# Altium footprint library PCB - DIODES - LUMEX LED 0404_1010 0.3MM.PcbLib: 1 footprints
Each footprint in its own frame and in the unit in brackets; x right, y up, seen from the top. Pads: shape width x height; smd on the part's side, far side on the other; paste and mask are expansions set on the pad; w line width, h text height; cw(c..) or ccw(c..) is an arc to the next point about the centre after c.
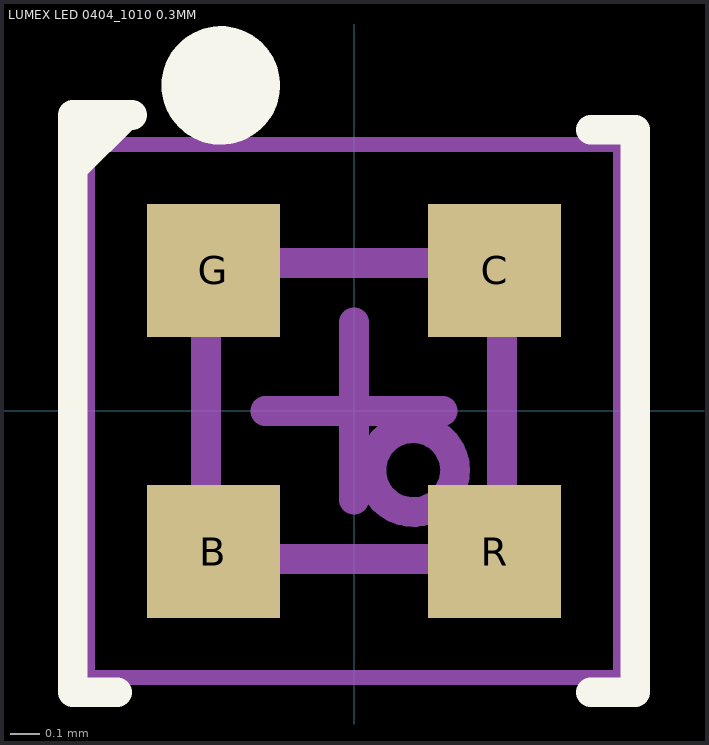
[diagram p0: the footprint, top view; thin cyan lines are the x and y axes]

## LUMEX LED 0404_1010 0.3MM [mm] "SMD RGB LED Indication, 4 Pads, Body 1.00x1.00mm"
height 0.3
pads (4):
  rect 0.45x0.45 smd: B(-0.475,-0.475) C(0.475,0.475) G(-0.475,0.475) R(0.475,-0.475)
Top Overlay:
  circle w0.2: c-0.45,1.1 r0.1
  region: -0.95,0.75 -0.95,1 -0.7,1
  lines w0.1: -0.95,0.8 -0.95,1 ; -0.8,-0.95 -0.95,-0.95 -0.95,1 ; -0.75,1 -0.95,1 ; 0.8,-0.95 0.95,-0.95 0.95,0.95 0.8,0.95
Mechanical 13:
  circle w0.1: c0.2,-0.2 r0.141
  lines w0.1: -0.5,-0.5 0.5,-0.5 0.5,0.5 -0.5,0.5 -0.5,-0.5
Mechanical 15:
  lines w0.05: -0.9,-0.9 0.9,-0.9 0.9,0.9 -0.9,0.9 -0.9,-0.9
Mechanical 2 (Mech9):
  lines w0.1: -0.3,0 0,0 ; 0,-0.3 0,0 ; 0,0.3 0,0 ; 0.3,0 0,0
3D body "Lumex - LED 0404_1010 0.3MM v11 lens.step": height 0.3, standoff 0.14, extent -0.5,-0.5 0.5,0.5
3D body "Lumex - LED 0404_1010 0.3MM v11 body.step": height 0.22, standoff 0, extent -0.5,-0.5 0.5,0.5